# Altium integrated library CL05A106MP8NUB8.IntLib: 1 symbol
Pins are listed as number, name and electrical type; pins without a type are passive.

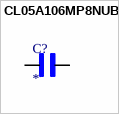
[diagram p0: symbol CL05A106MP8NUB8]

## CL05A106MP8NUB8
designator C?
10 ÂµF Â±20% 10V Ceramic Capacitor X5R 0402 (1005 Metric); MF: Samsung Electro-Mechanics; MP: CL05A106MP8NUB8; SnapEDA_Link: https://www.snapeda.com/parts/CL05A106MP8NUB8/Samsung/view-part/?ref=snap; Package: SMD-2 Samsung; Value: *; Check_prices: https://www.snapeda.com/parts/CL05A106MP8NUB8/Samsung/view-part/?ref=eda
footprint CAPC1005X90N
pins: 1, 2